# Altium schematic symbol library RFAMP_juliend.SchLib: 3 symbols
Pins are listed as number, name and electrical type; pins without a type are passive.

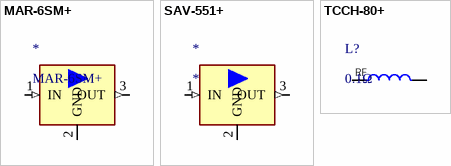
[diagram p0: symbols MAR-6SM+ to TCCH-80+]

## MAR-6SM+
designator *
Low Current MMIC Amplifier, DC to 2 GHz; ComponentLink1Description: Datasheet; ComponentLink1URL: https://www.minicircuits.com/pdfs/MAR-6SM+.pdf; ComponentLink2Description: S-parameter; ComponentLink2URL: https://www.minicircuits.com/pages/s-params/MAR-6SM+_S2P.zip; ComponentLink3Description: Test-board Gerber; ComponentLink3URL: https://www.minicircuits.com/gerber/TB-411-6+.zip; ComponentLink4Description: WW13 - Package Style; ComponentLink4URL: https://www.minicircuits.com/case_style/WW107.pdf; Pricing: 20=1.40,50=1.30,100=1.30,200=1.30,50=1.20,1000=1.10,2000=1.10 (USD); Supplier 1: Mini Circuit; Supplier Part Number 1: MAR-6SM+; ComponentLink5Description: Test Board Datasheet; ComponentLink5URL: https://www.minicircuits.com/pcb/WTB-411-6+_P02.pdf
footprint WW107
pins: 1 IN (in), 2 GND (power), 3 OUT (out)

## SAV-551+
designator *
Low Noise, E-PHEMT Transistor, 45 MHz to 6 GHz; ComponentLink1Description: Datasheet; ComponentLink1URL: https://www.minicircuits.com/pdfs/SAV-551+.pdf; ComponentLink2Description: Package; ComponentLink2URL: https://www.minicircuits.com/case_style/MMM1362.pdf; ComponentLink3Description: S-Parameter; ComponentLink3URL: https://www.minicircuits.com/pages/s-params/SAV-551+_S2P.zip; Pricing: 20=1.55,50=1.55,100=1.55,200=1.55,500=1.45,1000=1.35 (USD); Supplier 1: Mini Circuit; ComponentLink4Description: Test Board Gerber; ComponentLink4URL: https://www.minicircuits.com/gerber/TB-471+.zip; ComponentLink5Description: Test Board; ComponentLink5URL: https://www.minicircuits.com/pcb/WTB-471+_P02.pdf; Supplier Part Number 1: SAV-551+
footprint MMM1362 (RF amplifier PSA4)
pins: 1 IN (in), 2 GND (power), 3 OUT (out)

## TCCH-80+
designator L?, comment 0.1Ω
RF CHOKE / SURF MOUNT / RoHS / 20  $3.65 Mini Circuit; ComponentLink1Description: Package; ComponentLink1URL: https://www.minicircuits.com/case_style/GU1604.pdf; ComponentLink2Description: Datasheet; ComponentLink2URL: https://www.minicircuits.com/pdfs/TCCH-80+.pdf; ComponentLink3Description: S-Parameter; ComponentLink3URL: https://www.minicircuits.com/pages/s-params/TCCH-80+_S2P.zip; ComponentLink4Description: Order Page; ComponentLink4URL: https://www.minicircuits.com/WebStore/dashboard.html?model=TCCH-80%2B; Supplier Part Number 1: TCCH-80+; Supplier 1: Mini Circuit; Pricing: 20=3.65,50=3.45,100=3.25,200=2.95(USD)
footprint GU1604
pins: 1, 3
text: RF